# Altium integrated library GP1001.IntLib: 1 symbol
Pins are listed as number, name and electrical type; pins without a type are passive.

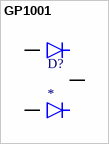
[diagram p0: symbol GP1001]

## GP1001
designator D?
10A, 50V, Standard Recovery Rectifier; MP: GP1001; MF: Taiwan Semiconductor; Purchase-URL: https://pricing.snapeda.com/search/part/GP1001/?ref=eda; Package: TO-220AB-3 Taiwan Semiconductor; Value: *; SnapEDA_Link: https://www.snapeda.com/parts/GP1001/Taiwan+Semiconductor/view-part/?ref=snap; Price: None; Availability: In Stock; Check_prices: https://www.snapeda.com/parts/GP1001/Taiwan+Semiconductor/view-part/?ref=eda
footprint TO254P1050X476X2020-3
pins: 1 A1, 2 C, 3 A2